# EAGLE library part AUDIO-TRANSFORMER (library SPCoast)
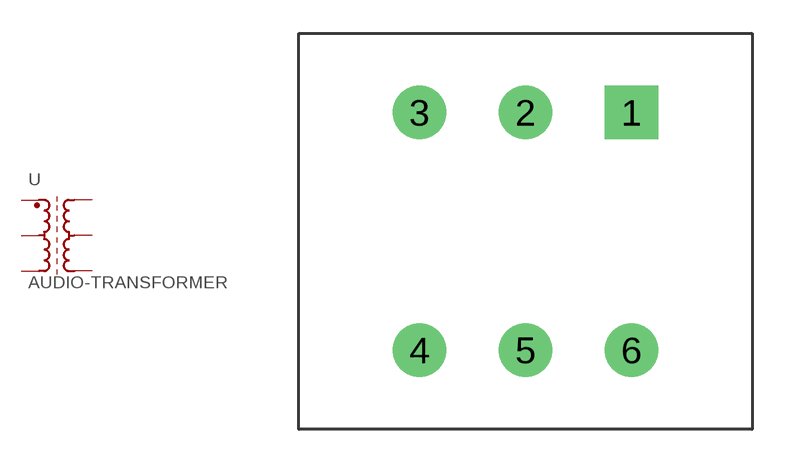
[diagram p39: symbol with the pads of TRIAD; footprint TRIAD]

Designator prefix -

## AUDIO-TRANSFORMER-TY145P  [TRIAD]
1  A1  pas
2  C1  pas
3  E1  pas
4  E2  pas
5  C2  pas
6  A2  pas

## Footprint TRIAD (pad centres in mm)
Triad TY145P
drill 1.6 square: 1 4.75,5.334
drill 1.6: 2 0,5.334; 3 -4.75,5.334; 4 -4.75,-5.334; 5 0,-5.334; 6 4.75,-5.334